# Altium footprint library UX60SC-MB-5S8.PcbLib: 1 footprints
Each footprint in its own frame and in the unit in brackets; x right, y up, seen from the top. Pads: shape width x height; smd on the part's side, far side on the other; paste and mask are expansions set on the pad; w line width, h text height; cw(c..) or ccw(c..) is an arc to the next point about the centre after c.
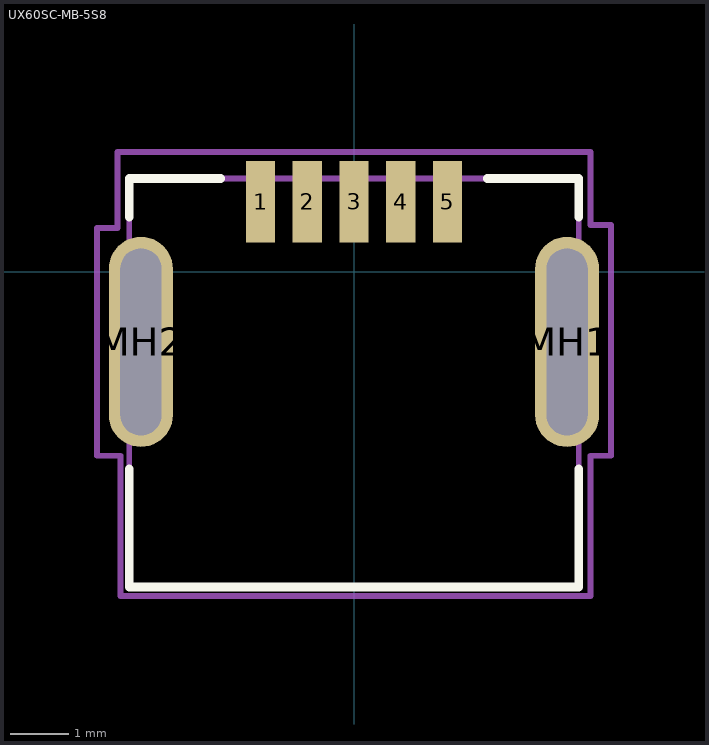
[diagram p0: the footprint, top view; thin cyan lines are the x and y axes]

## UX60SC-MB-5S8 [mm]
pads (7):
  rect 0.5x1.4 smd: 1(-1.6,1.2) 2(-0.8,1.2) 3(0,1.2) 4(0.8,1.2) 5(1.6,1.2)
  oval 1.1x3.6 hole 0.7 slot 3.2 at 90 deg: MH1(3.65,-1.2) MH2(-3.65,-1.2)
Top Overlay:
  lines w0.152: -3.85,-3.376 -3.85,-5.4 3.85,-5.4 3.85,-3.376 ; -3.85,0.942 -3.85,1.6 -2.286,1.6 ; 2.286,1.6 3.85,1.6 3.85,0.942
Mechanical 13:
  lines w0.1: -3.85,-5.4 -3.85,1.6 3.85,1.6 3.85,-5.4 -3.85,-5.4
Mechanical 15:
  lines w0.1: -4.4,-3.15 -4.4,0.75 -4.05,0.75 -4.05,2.05 4.05,2.05 4.05,0.8 4.4,0.8 4.4,-3.15 4.05,-3.15 4.05,-5.55 -4,-5.55 -4,-3.15 -4.4,-3.15
3D body: height 3.92, standoff -0.78, extent -3.85,-5.4 3.85,1.6